# Altium footprint library 4.33-CCM-5.08mm卧式直插插座.PcbLib: 23 footprints (part 1 of 2)
Each footprint in its own frame and in the unit in brackets; x right, y up, seen from the top. Pads: shape width x height; smd on the part's side, far side on the other; paste and mask are expansions set on the pad; w line width, h text height; cw(c..) or ccw(c..) is an arc to the next point about the centre after c.
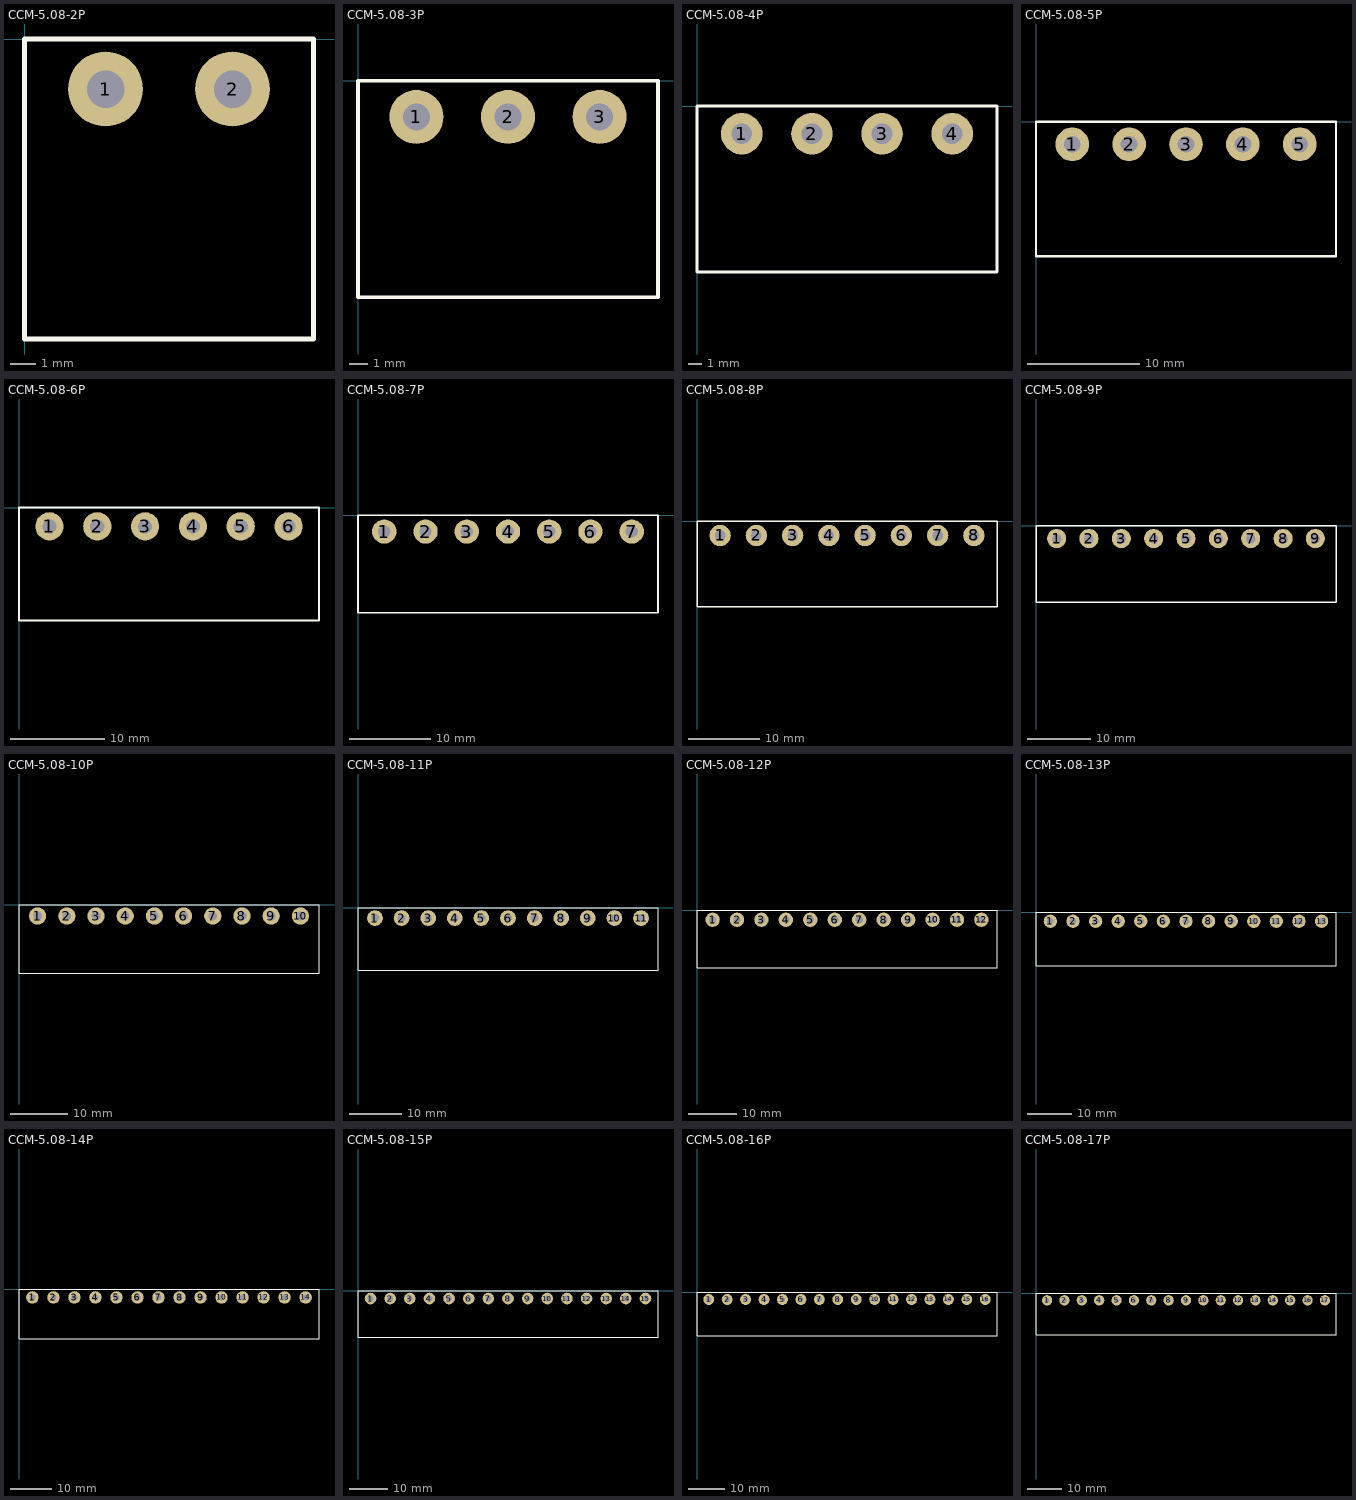
[diagram p0: the footprints below, top view; thin cyan lines are the x and y axes]

## CCM-5.08-2P [mm] "[ PCBѧϰȺ514746572 ]"
pads (2):
  round 3 hole 1.5: 1(3.24,-2) 2(8.32,-2)
Top Overlay:
  lines w0.203: 0,-12 11.56,-12 11.56,0 0,0 0,-12
3D body "5.08-2P.STEP": height 8.51, standoff -3.99, extent -0.03,-12 11.53,0

## CCM-5.08-3P [mm] "[ PCBѧϰȺ514746572 ]"
pads (3):
  round 3 hole 1.5: 1(3.24,-2) 2(8.32,-2) 3(13.4,-2)
Top Overlay:
  lines w0.203: 5.08,-12 16.64,-12 16.64,0 5.08,0 ; 11.56,-12 0,-12 0,0 11.56,0
3D body "5.08-3P.STEP": height 8.54, standoff -3.96, extent 0,-12 16.64,0

## CCM-5.08-4P [mm] "[ PCBѧϰȺ514746572 ]"
pads (4):
  round 3 hole 1.5: 1(3.24,-2) 2(8.32,-2) 3(13.4,-2) 4(18.48,-2)
Top Overlay:
  lines w0.203: 5.08,-12 16.64,-12 ; 5.08,0 16.64,0 ; 10.16,-12 21.72,-12 21.72,0 10.16,0 ; 11.56,-12 0,-12 0,0 11.56,0
3D body "5.08-4P.STEP": height 3.45, standoff -9.05, extent -0.11,-12 21.61,0

## CCM-5.08-5P [mm] "[ PCBѧϰȺ514746572 ]"
pads (5):
  round 3 hole 1.5: 1(3.24,-2) 2(8.32,-2) 3(13.4,-2) 4(18.48,-2) 5(23.56,-2)
Top Overlay:
  lines w0.203: 5.08,-12 16.64,-12 ; 5.08,0 16.64,0 ; 10.16,-12 21.72,-12 ; 10.16,0 21.72,0 ; 11.56,-12 0,-12 0,0 11.56,0 ; 15.24,-12 26.8,-12 26.8,0 15.24,0
3D body "5.08-5P.STEP": height 3.45, standoff -9.05, extent -0.15,-12 26.65,0

## CCM-5.08-6P [mm] "[ PCBѧϰȺ514746572 ]"
pads (6):
  round 3 hole 1.5: 1(3.24,-2) 2(8.32,-2) 3(13.4,-2) 4(18.48,-2) 5(23.56,-2) 6(28.64,-2)
Top Overlay:
  lines w0.203: 5.08,-12 16.64,-12 ; 5.08,0 16.64,0 ; 10.16,-12 21.72,-12 ; 10.16,0 21.72,0 ; 11.56,-12 0,-12 0,0 11.56,0 ; 15.24,-12 26.8,-12 ; 15.24,0 26.8,0 ; 20.32,-12 31.88,-12 31.88,0 20.32,0
3D body "5.08-6P.STEP": height 3.45, standoff -9.05, extent 0.06,-12 31.94,0

## CCM-5.08-7P [mm] "[ PCBѧϰȺ514746572 ]"
pads (7):
  round 3 hole 1.5: 1(3.24,-2) 2(8.32,-2) 3(13.4,-2) 4(18.48,-2) 5(23.56,-2) 6(28.64,-2) 7(33.72,-2)
Top Overlay:
  lines w0.203: 5.08,-12 16.64,-12 ; 5.08,0 16.64,0 ; 10.16,-12 21.72,-12 ; 10.16,0 21.72,0 ; 11.56,-12 0,-12 0,0 11.56,0 ; 15.24,-12 26.8,-12 ; 15.24,0 26.8,0 ; 20.32,-12 36.96,-12 36.96,0 20.32,0
3D body "5.08-7P.STEP": height 3.45, standoff -9.05, extent 0.02,-12 36.98,0

## CCM-5.08-8P [mm] "[ PCBѧϰȺ514746572 ]"
pads (8):
  round 3 hole 1.5: 1(3.24,-2) 2(8.32,-2) 3(13.4,-2) 4(18.48,-2) 5(23.56,-2) 6(28.64,-2) 7(33.72,-2) 8(38.8,-2)
Top Overlay:
  lines w0.203: 5.08,-12 16.64,-12 ; 5.08,0 16.64,0 ; 10.16,-12 21.72,-12 ; 10.16,0 21.72,0 ; 11.56,-12 0,-12 0,0 11.56,0 ; 15.24,-12 26.8,-12 ; 15.24,0 26.8,0 ; 20.32,-12 42.04,-12 42.04,0 20.32,0
3D body "5.08-8P.STEP": height 3.45, standoff -9.05, extent -0.02,-12 42.02,0

## CCM-5.08-9P [mm] "[ PCBѧϰȺ514746572 ]"
pads (9):
  round 3 hole 1.5: 1(3.24,-2) 2(8.32,-2) 3(13.4,-2) 4(18.48,-2) 5(23.56,-2) 6(28.64,-2) 7(33.72,-2) 8(38.8,-2) 9(43.88,-2)
Top Overlay:
  lines w0.203: 5.08,-12 16.64,-12 ; 5.08,0 16.64,0 ; 10.16,-12 21.72,-12 ; 10.16,0 21.72,0 ; 11.56,-12 0,-12 0,0 11.56,0 ; 15.24,-12 26.8,-12 ; 15.24,0 26.8,0 ; 20.32,-12 47.12,-12 47.12,0 20.32,0
3D body "5.08-9P.STEP": height 8.51, standoff -3.99, extent -0.06,-12 47.06,0

## CCM-5.08-10P [mm] "[ PCBѧϰȺ514746572 ]"
pads (10):
  round 3 hole 1.5: 1(3.24,-2) 2(8.32,-2) 3(13.4,-2) 4(18.48,-2) 5(23.56,-2) 6(28.64,-2) 7(33.72,-2) 8(38.8,-2) 9(43.88,-2) 10(48.96,-2)
Top Overlay:
  lines w0.203: 5.08,-12 16.64,-12 ; 5.08,0 16.64,0 ; 10.16,-12 21.72,-12 ; 10.16,0 21.72,0 ; 11.56,-12 0,-12 0,0 11.56,0 ; 15.24,-12 26.8,-12 ; 15.24,0 26.8,0 ; 20.32,-12 52.2,-12 52.2,0 20.32,0
3D body "5.08-10P.STEP": height 8.51, standoff -3.99, extent 0.15,-12 52.35,0

## CCM-5.08-11P [mm] "[ PCBѧϰȺ514746572 ]"
pads (11):
  round 3 hole 1.5: 1(3.24,-2) 2(8.32,-2) 3(13.4,-2) 4(18.48,-2) 5(23.56,-2) 6(28.64,-2) 7(33.72,-2) 8(38.8,-2) 9(43.88,-2) 10(48.96,-2) 11(54.04,-2)
Top Overlay:
  lines w0.203: 5.08,-12 16.64,-12 ; 5.08,0 16.64,0 ; 10.16,-12 21.72,-12 ; 10.16,0 21.72,0 ; 11.56,-12 0,-12 0,0 11.56,0 ; 15.24,-12 26.8,-12 ; 15.24,0 26.8,0 ; 20.32,-12 57.28,-12 57.28,0 20.32,0
3D body "5.08-11P.STEP": height 3.45, standoff -9.05, extent 0.11,-12 57.39,0

## CCM-5.08-12P [mm] "[ PCBѧϰȺ514746572 ]"
pads (12):
  round 3 hole 1.5: 1(3.24,-2) 2(8.32,-2) 3(13.4,-2) 4(18.48,-2) 5(23.56,-2) 6(28.64,-2) 7(33.72,-2) 8(38.8,-2) 9(43.88,-2) 10(48.96,-2) 11(54.04,-2) 12(59.12,-2)
Top Overlay:
  lines w0.203: 5.08,-12 16.64,-12 ; 5.08,0 16.64,0 ; 10.16,-12 21.72,-12 ; 10.16,0 21.72,0 ; 11.56,-12 0,-12 0,0 11.56,0 ; 15.24,-12 26.8,-12 ; 15.24,0 26.8,0 ; 20.32,-12 62.36,-12 62.36,0 20.32,0
3D body "5.08-12P.STEP": height 3.45, standoff -9.05, extent 0.07,-12 62.43,0

## CCM-5.08-13P [mm] "[ PCBѧϰȺ514746572 ]"
pads (13):
  round 3 hole 1.5: 1(3.24,-2) 2(8.32,-2) 3(13.4,-2) 4(18.48,-2) 5(23.56,-2) 6(28.64,-2) 7(33.72,-2) 8(38.8,-2) 9(43.88,-2) 10(48.96,-2) 11(54.04,-2) 12(59.12,-2) 13(64.2,-2)
Top Overlay:
  lines w0.203: 5.08,-12 16.64,-12 ; 5.08,0 16.64,0 ; 10.16,-12 21.72,-12 ; 10.16,0 21.72,0 ; 11.56,-12 0,-12 0,0 11.56,0 ; 15.24,-12 26.8,-12 ; 15.24,0 26.8,0 ; 20.32,-12 67.44,-12 67.44,0 20.32,0
3D body "5.08-13P.STEP": height 3.45, standoff -9.05, extent 0.03,-12 67.47,0

## CCM-5.08-14P [mm] "[ PCBѧϰȺ514746572 ]"
pads (14):
  round 3 hole 1.5: 1(3.24,-2) 2(8.32,-2) 3(13.4,-2) 4(18.48,-2) 5(23.56,-2) 6(28.64,-2) 7(33.72,-2) 8(38.8,-2) 9(43.88,-2) 10(48.96,-2) 11(54.04,-2) 12(59.12,-2) 13(64.2,-2) 14(69.28,-2)
Top Overlay:
  lines w0.203: 5.08,-12 16.64,-12 ; 5.08,0 16.64,0 ; 10.16,-12 21.72,-12 ; 10.16,0 21.72,0 ; 11.56,-12 0,-12 0,0 11.56,0 ; 15.24,-12 26.8,-12 ; 15.24,0 26.8,0 ; 20.32,-12 72.52,-12 72.52,0 20.32,0
3D body "5.08-14P.STEP": height 3.45, standoff -9.05, extent -0.01,-12 72.51,0

## CCM-5.08-15P [mm] "[ PCBѧϰȺ514746572 ]"
pads (15):
  round 3 hole 1.5: 1(3.24,-2) 2(8.32,-2) 3(13.4,-2) 4(18.48,-2) 5(23.56,-2) 6(28.64,-2) 7(33.72,-2) 8(38.8,-2) 9(43.88,-2) 10(48.96,-2) 11(54.04,-2) 12(59.12,-2) 13(64.2,-2) 14(69.28,-2) 15(74.36,-2)
Top Overlay:
  lines w0.203: 5.08,-12 16.64,-12 ; 5.08,0 16.64,0 ; 10.16,-12 21.72,-12 ; 10.16,0 21.72,0 ; 11.56,-12 0,-12 0,0 11.56,0 ; 15.24,-12 26.8,-12 ; 15.24,0 26.8,0 ; 20.32,-12 77.6,-12 77.6,0 20.32,0
3D body "5.08-15P.STEP": height 3.45, standoff -9.05, extent -0.05,-12 77.55,0

## CCM-5.08-16P [mm] "[ PCBѧϰȺ514746572 ]"
pads (16):
  round 3 hole 1.5: 1(3.24,-2) 2(8.32,-2) 3(13.4,-2) 4(18.48,-2) 5(23.56,-2) 6(28.64,-2) 7(33.72,-2) 8(38.8,-2) 9(43.88,-2) 10(48.96,-2) 11(54.04,-2) 12(59.12,-2) 13(64.2,-2) 14(69.28,-2) 15(74.36,-2) 16(79.44,-2)
Top Overlay:
  lines w0.203: 5.08,-12 16.64,-12 ; 5.08,0 16.64,0 ; 10.16,-12 21.72,-12 ; 10.16,0 21.72,0 ; 11.56,-12 0,-12 0,0 11.56,0 ; 15.24,-12 26.8,-12 ; 15.24,0 26.8,0 ; 20.32,-12 82.68,-12 82.68,0 20.32,0
3D body "5.08-16P.STEP": height 8.54, standoff -3.96, extent 0.16,-12 82.84,0

## CCM-5.08-17P [mm] "[ PCBѧϰȺ514746572 ]"
pads (17):
  round 3 hole 1.5: 1(3.24,-2) 2(8.32,-2) 3(13.4,-2) 4(18.48,-2) 5(23.56,-2) 6(28.64,-2) 7(33.72,-2) 8(38.8,-2) 9(43.88,-2) 10(48.96,-2) 11(54.04,-2) 12(59.12,-2) 13(64.2,-2) 14(69.28,-2) 15(74.36,-2) 16(79.44,-2) 17(84.52,-2)
Top Overlay:
  lines w0.203: 5.08,-12 16.64,-12 ; 5.08,0 16.64,0 ; 10.16,-12 21.72,-12 ; 10.16,0 21.72,0 ; 11.56,-12 0,-12 0,0 11.56,0 ; 15.24,-12 26.8,-12 ; 15.24,0 26.8,0 ; 20.32,-12 87.76,-12 87.76,0 20.32,0
3D body "5.08-17P.STEP": height 8.54, standoff -3.96, extent 0.12,-12 87.88,0